# Altium schematic symbol library TBP01R2-508-06BE.SchLib: 1 symbol
Pins are listed as number, name and electrical type; pins without a type are passive.

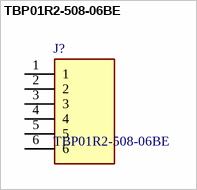
[diagram p0: symbol TBP01R2-508-06BE]

## TBP01R2-508-06BE
designator J?
6 Position Terminal Block Header, Male Pins, Shrouded (4 Side) 0.200" (5.08mm) Vertical Through Hole; Manufacturer_Name: Same Sky; Geometry.Height: 12.4mm; Mouser Part Number: 490-TBP01R2-508-06BE; Mouser Price/Stock: https://www.mouser.co.uk/ProductDetail/CUI-Devices/TBP01R2-508-06BE?qs=PzGy0jfpSMsphIICa8uwtQ%3D%3D; Manufacturer_Part_Number: TBP01R2-508-06BE; Datasheet Link: https://www.sameskydevices.com/product/resource/tbp01r2-508.pdf
footprint TBP01R250806BE
pins: 1, 2, 3, 4, 5, 6